# EAGLE library part BOX10P (library connectors)
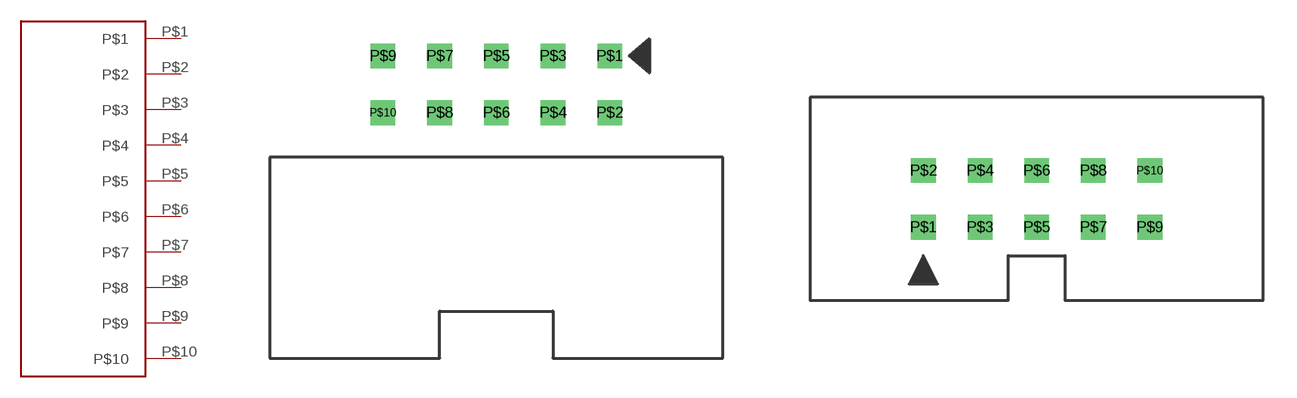
[diagram p0: symbol with the pads of BOX10P-L; footprints BOX10P-L, BOX10P-T]

Designator prefix BOX10P-L

## BOX10PBOX10P-L  [BOX10P-L]
P$1  P$1
P$2  P$2
P$3  P$3
P$4  P$4
P$5  P$5
P$6  P$6
P$7  P$7
P$8  P$8
P$9  P$9
P$10  P$10

## BOX10PBOX10P-T  [BOX10P-T]
Pads as for BOX10P-L

## Footprint BOX10P-L (pad centres in mm)
drill 0.6 square: P$1 5.08,2.54; P$2 5.08,0; P$3 2.54,2.54; P$4 2.54,0; P$5 0,2.54; P$6 0,0; P$7 -2.54,2.54; P$8 -2.54,0; P$9 -5.08,2.54; P$10 -5.08,0

## Footprint BOX10P-T (pad centres in mm)
drill 0.6 square: P$1 -5.08,-1.27; P$2 -5.08,1.27; P$3 -2.54,-1.27; P$4 -2.54,1.27; P$5 0,-1.27; P$6 0,1.27; P$7 2.54,-1.27; P$8 2.54,1.27; P$9 5.08,-1.27; P$10 5.08,1.27